# Altium footprint library do_219ab.PcbLib: 1 footprints
Each footprint in its own frame and in the unit in brackets; x right, y up, seen from the top. Pads: shape width x height; smd on the part's side, far side on the other; paste and mask are expansions set on the pad; w line width, h text height; cw(c..) or ccw(c..) is an arc to the next point about the centre after c.
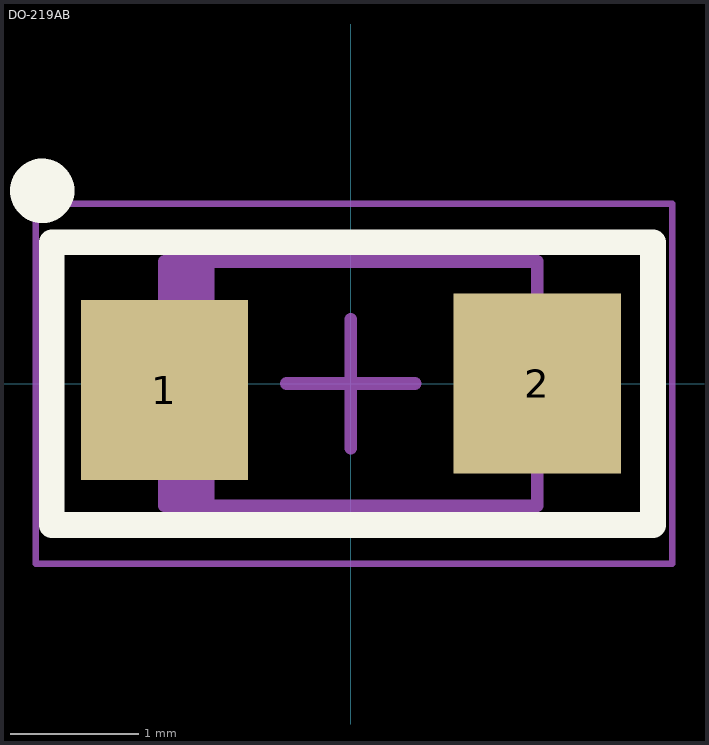
[diagram p0: the footprint, top view; thin cyan lines are the x and y axes]

## DO-219AB [mm]
height 1.08
pads (2):
  rect 1.3x1.4 smd: 1(-1.45,-0.05) 2(1.45,0)
Top Overlay:
  circle w0.4: c-2.4,1.5 r0.05
  lines w0.2: -2.325,-1.1 -2.325,1.1 2.35,1.1 2.35,-1.1 -2.325,-1.1
Top Comment:
  text ".Comment" at 1.1,1.6 h1.2
Top Designator:
  text ".Designator" at -0.4,1.6 h1.2
Top Component Outline:
  rectangle: -1.45,-0.95 -1.06,0.95
  lines w0.1: -1.45,-0.95 1.45,-0.95 1.45,0.95 -1.45,0.95 -1.45,-0.95
Top Courtyard (Mech15):
  lines w0.05: -2.45,-1.4 2.5,-1.4 2.5,1.4 -2.45,1.4 -2.45,-1.4
  lines w0.1: -0.5,0 0.5,0 ; 0,-0.5 0,0.5
3D body "DO-219AB.STEP": height 1.25, standoff 0, extent -1.95,-0.95 1.95,0.95